# EAGLE library part MAX743CPE (library F030NG)
PWM switch-mode regulator
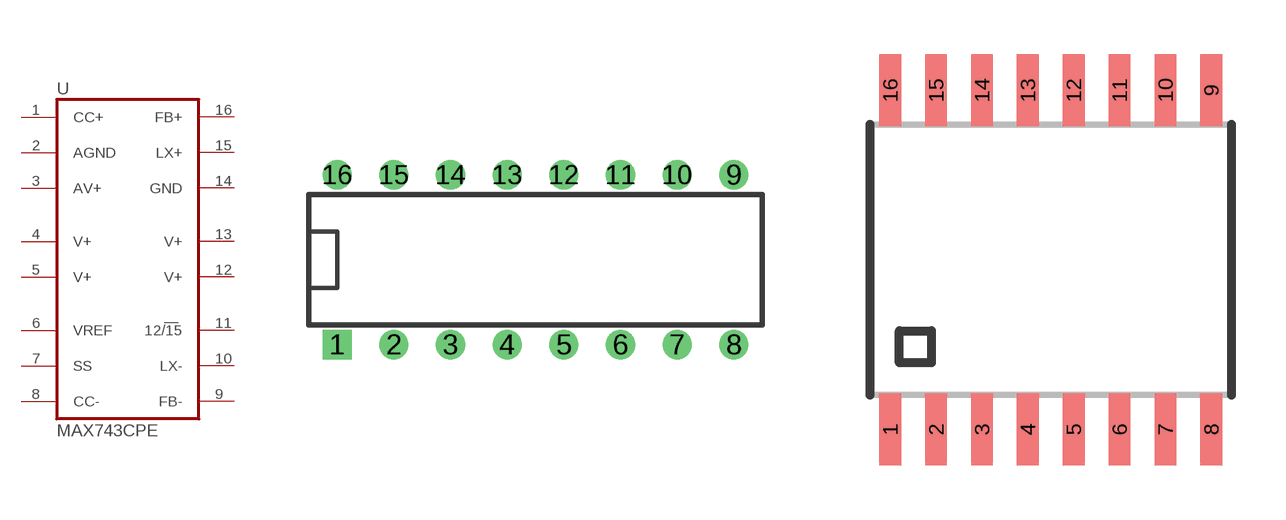
[diagram p44: symbol with the pads of DIL16; footprints DIL16, SOIC16]

Designator prefix U

## MAX743CPE-DIL (MF: MAXIM; MPN: MAX743CPE; OC_FARNELL: 1187931; OC_NEWARK: 79C2246)  [DIL16]
1  CC+  pas
2  AGND  pwr
3  AV+  in
4  V+  in
5  V+  in
6  VREF  sup
7  SS  pas
8  CC-  pas
9  FB-  in
10  LX-  pas
11  12/15  in
12  V+  in
13  V+  in
14  GND  pwr
15  LX+  pas
16  FB+  in

## MAX743CPE-SO  [SOIC16]
Pads as for DIL16

## Footprint DIL16 (pad centres in mm)
Dual In Line Package
drill 0.8 square: 1 -8.89,-3.81
drill 0.8: 2 -6.35,-3.81; 3 -3.81,-3.81; 4 -1.27,-3.81; 5 1.27,-3.81; 6 3.81,-3.81; 7 6.35,-3.81; 8 8.89,-3.81; 9 8.89,3.81; 10 6.35,3.81; 11 3.81,3.81; 12 1.27,3.81; 13 -1.27,3.81; 14 -3.81,3.81; 15 -6.35,3.81; 16 -8.89,3.81

## Footprint SOIC16 (pad centres in mm)
SMALL OUTLINE INTEGRATED CIRCUIT 7,6 mm wide body
smd 0.6 x 2: 1 -4.445,-4.699; 2 -3.175,-4.699; 3 -1.905,-4.699; 4 -0.635,-4.699; 5 0.635,-4.699; 6 1.905,-4.699; 7 3.175,-4.699; 8 4.445,-4.699; 9 4.445,4.699; 10 3.175,4.699; 11 1.905,4.699; 12 0.635,4.699; 13 -0.635,4.699; 14 -1.905,4.699; 15 -3.175,4.699; 16 -4.445,4.699